# Altium footprint library LD1117S33CTR.PcbLib: 3 footprints
Each footprint in its own frame and in the unit in brackets; x right, y up, seen from the top. Pads: shape width x height; smd on the part's side, far side on the other; paste and mask are expansions set on the pad; w line width, h text height; cw(c..) or ccw(c..) is an arc to the next point about the centre after c.
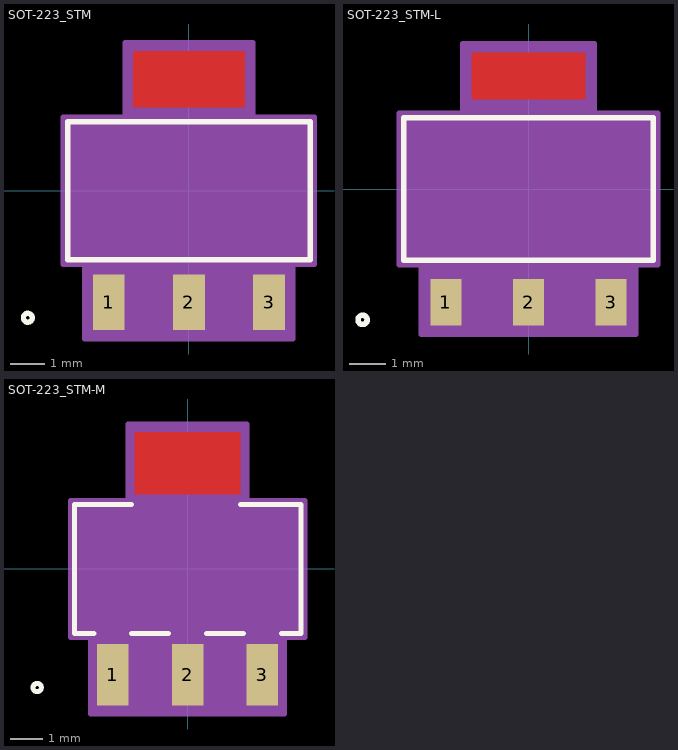
[diagram p0: the footprints below, top view; thin cyan lines are the x and y axes]

## SOT-223_STM [mil]
pads (3):
  rect 36x63 smd paste+0 mask+0: 1(-90.55,-126) 2(0,-126) 3(90.55,-126)
Top Layer:
  region: 63,94.5 63,157.5 -63,157.5 -63,94.5
Top Overlay:
  circle w6: c-182,-143.5 r5
  lines w6: -137,-78 137,-78 137,78 -137,78 -137,-78
  text ".Designator" at -137.5,-25 h50
Top Paste:
  region: 63,94.5 63,157.5 -63,157.5 -63,94.5
Top Solder:
  region: 64,80.5 64,171.5 -64,171.5 -64,80.5
Mechanical 13:
  circle w1: c-122,-63 r5
  lines w1: -132,-73 132,-73 132,73 -132,73 -132,-73 ; -107.55,-143.5 -107.55,-73 -73.55,-73 -73.55,-143.5 -107.55,-143.5 ; -62,73 62,73 62,143.5 -62,143.5 -62,73 ; -17,-143.5 -17,-73 17,-73 17,-143.5 -17,-143.5 ; 73.55,-143.5 73.55,-73 107.55,-73 107.55,-143.5 73.55,-143.5
  text ".Designator" at -137.5,-25 h50
Mechanical 15:
  region: -142,-83 -142,83 -72,83 -72,167.5 72,167.5 72,83 142,83 142,-83 117.55,-83 117.55,-167.5 -117.55,-167.5 -117.55,-83
  lines w6: -142,-83 -142,83 -72,83 -72,167.5 72,167.5 72,83 142,83 142,-83 117.55,-83 117.55,-167.5 -117.55,-167.5 -117.55,-83 -142,-83
3D body "SOT-223_STM.step": height 71.1, standoff 0, extent -132.01,-143.5 132.01,143.5

## SOT-223_STM-L [mil]
pads (3):
  rect 34x51 smd paste+0 mask+0: 1(-90.55,-124) 2(0,-124) 3(90.55,-124)
Top Layer:
  region: 62,98.5 62,149.5 -62,149.5 -62,98.5
Top Overlay:
  circle w6: c-182,-143.5 r5
  lines w6: -137,-78 137,-78 137,78 -137,78 -137,-78
  text ".Designator" at -137.5,-25 h50
Top Paste:
  region: 62,98.5 62,149.5 -62,149.5 -62,98.5
Top Solder:
  region: 62,88.5 62,155.5 -62,155.5 -62,88.5
Mechanical 13:
  circle w1: c-122,-63 r5
  lines w1: -132,-73 132,-73 132,73 -132,73 -132,-73 ; -107.55,-143.5 -107.55,-73 -73.55,-73 -73.55,-143.5 -107.55,-143.5 ; -62,73 62,73 62,143.5 -62,143.5 -62,73 ; -17,-143.5 -17,-73 17,-73 17,-143.5 -17,-143.5 ; 73.55,-143.5 73.55,-73 107.55,-73 107.55,-143.5 73.55,-143.5
  text ".Designator" at -137.5,-25 h50
Mechanical 15:
  region: -142,-83 -142,83 -72,83 -72,159.5 72,159.5 72,83 142,83 142,-83 117.55,-83 117.55,-159.5 -117.55,-159.5 -117.55,-83
  lines w6: -142,-83 -142,83 -72,83 -72,159.5 72,159.5 72,83 142,83 142,-83 117.55,-83 117.55,-159.5 -117.55,-159.5 -117.55,-83 -142,-83
3D body "SOT-223_STM.step": height 71.1, standoff 0, extent -132.01,-143.5 132.01,143.5

## SOT-223_STM-M [mil]
pads (3):
  rect 38x75 smd paste+0 mask+0: 1(-90.55,-128) 2(0,-128) 3(90.55,-128)
Top Layer:
  region: 64,90.5 64,165.5 -64,165.5 -64,90.5
Top Overlay:
  circle w6: c-182,-143.5 r5
  lines w6: -113.47,-78 -137,-78 -137,78 -67.92,78 ; -67.63,-78 -22.92,-78 ; 22.92,-78 67.63,-78 ; 64,78 137,78 137,-78 113.47,-78
  text ".Designator" at -137.5,-25 h50
Top Paste:
  region: 64,90.5 64,165.5 -64,165.5 -64,90.5
Top Solder:
  region: 66,72.5 66,187.5 -66,187.5 -66,72.5
Mechanical 13:
  circle w1: c-122,-63 r5
  lines w1: -132,-73 132,-73 132,73 -132,73 -132,-73 ; -107.55,-143.5 -107.55,-73 -73.55,-73 -73.55,-143.5 -107.55,-143.5 ; -62,73 62,73 62,143.5 -62,143.5 -62,73 ; -17,-143.5 -17,-73 17,-73 17,-143.5 -17,-143.5 ; 73.55,-143.5 73.55,-73 107.55,-73 107.55,-143.5 73.55,-143.5
  text ".Designator" at -137.5,-25 h50
Mechanical 15:
  region: -142,-83 -142,83 -72,83 -72,175.5 72,175.5 72,83 142,83 142,-83 117.55,-83 117.55,-175.5 -117.55,-175.5 -117.55,-83
  lines w6: -142,-83 -142,83 -72,83 -72,175.5 72,175.5 72,83 142,83 142,-83 117.55,-83 117.55,-175.5 -117.55,-175.5 -117.55,-83 -142,-83
3D body "SOT-223_STM.step": height 71.1, standoff 0, extent -132.01,-143.5 132.01,143.5